# EAGLE library part TPS54233 (library ICs)
2-A, 28-V INPUT, STEP-DOWN DC/DC CONVERTER WITH ECO-MODE SO8
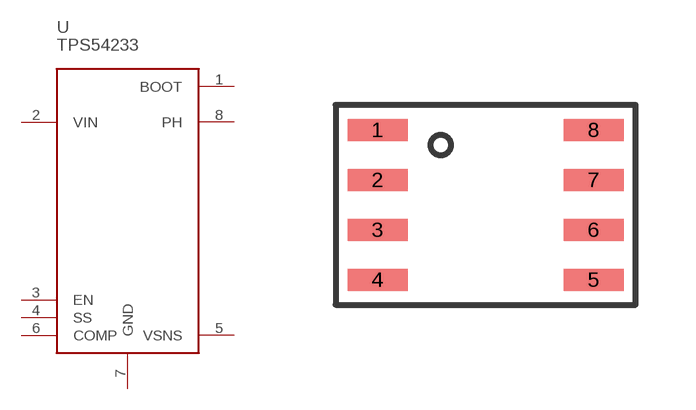
[diagram p58: symbol with the pads of SO8; footprint SO8]

Designator prefix U

## TPS54233D (DIGIKEY: 296-26985-5-ND; HEIGHT: 2; PRICE_PER: 1.64; VALUE: TPS54233D)  [SO8]
1  BOOT
2  VIN
3  EN
4  SS
5  VSNS
6  COMP
7  GND
8  PH

## Footprint SO8 (pad centres in mm)
smd 1.5 x 0.55: 1 -2.7,1.875; 2 -2.7,0.625; 3 -2.7,-0.625; 4 -2.7,-1.875; 5 2.7,-1.875; 6 2.7,-0.625; 7 2.7,0.625; 8 2.7,1.875